# EAGLE library part SA9226 (library Deegou_IC)
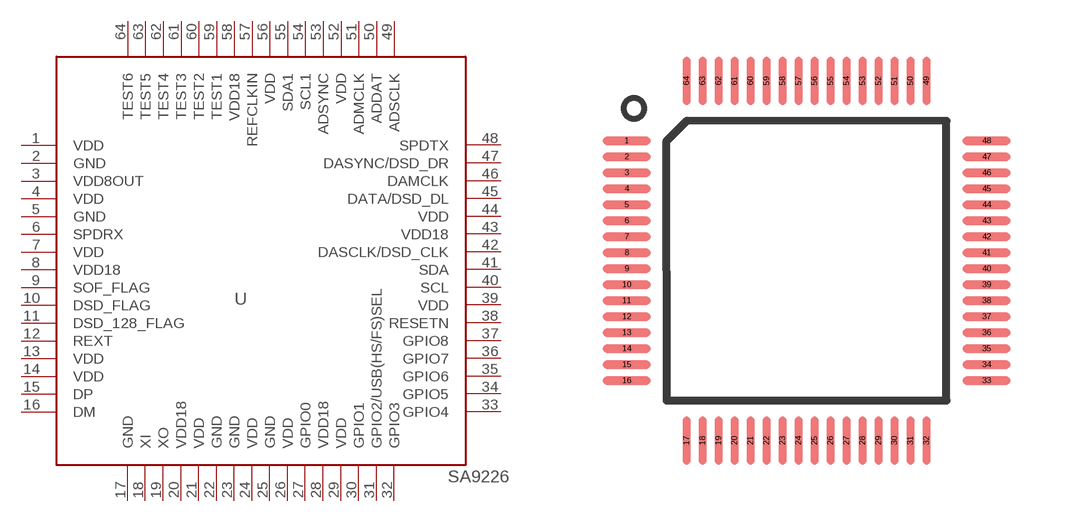
[diagram p9: symbol with the pads of TQFP64; footprint TQFP64]

Designator prefix U

## SA9226  [TQFP64]
1  VDD
2  GND
3  VDD8OUT
4  VDD
5  GND
6  SPDRX
7  VDD
8  VDD18
9  SOF_FLAG
10  DSD_FLAG
11  DSD_128_FLAG
12  REXT
13  VDD
14  VDD
15  DP
16  DM
17  GND
18  XI
19  XO
20  VDD18
21  VDD
22  GND
23  GND
24  VDD
25  GND
26  VDD
27  GPIO0
28  VDD18
29  VDD
30  GPIO1
31  GPIO2/USB(HS/FS)SEL
32  GPIO3
33  GPIO4
34  GPIO5
35  GPIO6
36  GPIO7
37  GPIO8
38  RESETN
39  VDD
40  SCL
41  SDA
42  DASCLK/DSD_CLK
43  VDD18
44  VDD
45  DATA/DSD_DL
46  DAMCLK
47  DASYNC/DSD_DR
48  SPDTX
49  ADSCLK
50  ADDAT
51  ADMCLK
52  VDD
53  ADSYNC
54  SCL1
55  SDA1
56  VDD
57  REFCLKIN
58  VDD18
59  TEST1
60  TEST2
61  TEST3
62  TEST4
63  TEST5
64  TEST6

## Footprint TQFP64 (pad centres in mm)
Original name TQFP64-9x9
smd 1.2 x 0.2: 1 -4.5,3; 2 -4.5,2.6; 3 -4.5,2.2; 4 -4.5,1.8; 5 -4.5,1.4; 6 -4.5,1; 7 -4.5,0.6; 8 -4.5,0.2; 9 -4.5,-0.2; 10 -4.5,-0.6; 11 -4.5,-1; 12 -4.5,-1.4; 13 -4.5,-1.8; 14 -4.5,-2.2; 15 -4.5,-2.6; 16 -4.5,-3; 33 4.5,-3; 34 4.5,-2.6; 35 4.5,-2.2; 36 4.5,-1.8; 37 4.5,-1.4; 38 4.5,-1; 39 4.5,-0.6; 40 4.5,-0.2; 41 4.5,0.2; 42 4.5,0.6; 43 4.5,1; 44 4.5,1.4; 45 4.5,1.8; 46 4.5,2.2; 47 4.5,2.6; 48 4.5,3
smd 0.2 x 1.2: 17 -3,-4.5; 18 -2.6,-4.5; 19 -2.2,-4.5; 20 -1.8,-4.5; 21 -1.4,-4.5; 22 -1,-4.5; 23 -0.6,-4.5; 24 -0.2,-4.5; 25 0.2,-4.5; 26 0.6,-4.5; 27 1,-4.5; 28 1.4,-4.5; 29 1.8,-4.5; 30 2.2,-4.5; 31 2.6,-4.5; 32 3,-4.5; 49 3,4.5; 50 2.6,4.5; 51 2.2,4.5; 52 1.8,4.5; 53 1.4,4.5; 54 1,4.5; 55 0.6,4.5; 56 0.2,4.5; 57 -0.2,4.5; 58 -0.6,4.5; 59 -1,4.5; 60 -1.4,4.5; 61 -1.8,4.5; 62 -2.2,4.5; 63 -2.6,4.5; 64 -3,4.5